# Altium footprint library Components - 25.03.22 - 15.14.PcbLib: 1 footprints
Each footprint in its own frame and in the unit in brackets; x right, y up, seen from the top. Pads: shape width x height; smd on the part's side, far side on the other; paste and mask are expansions set on the pad; w line width, h text height; cw(c..) or ccw(c..) is an arc to the next point about the centre after c.
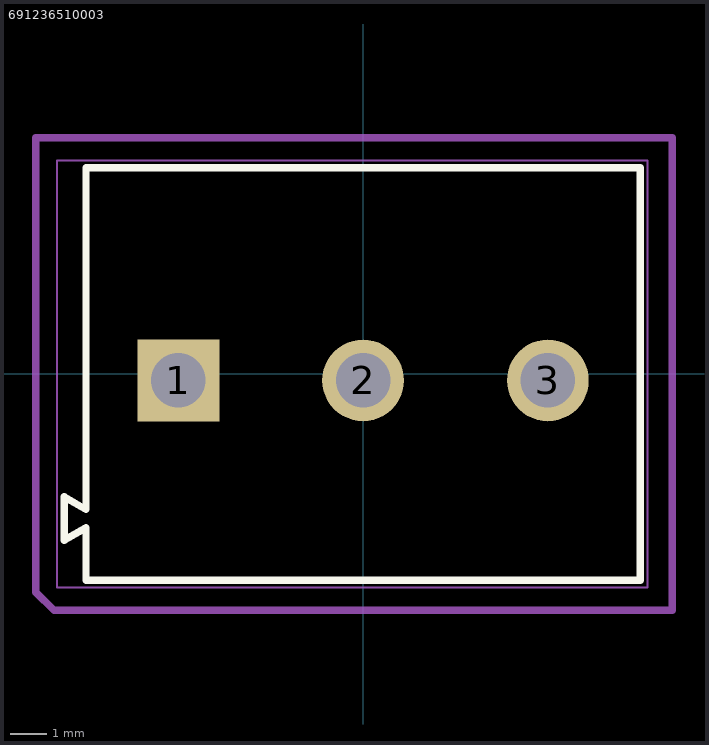
[diagram p0: the footprint, top view; thin cyan lines are the x and y axes]

## 691236510003 [mm] "Horizontal Cable Entry with Rising Cage Clamp, pitch 5.08mm, 03p"
height 18
pads (3):
  rect 2.25x2.25 hole 1.5: 1(-5.08,-0.175)
  round 2.25 hole 1.5: 2(0,-0.175) 3(5.08,-0.175)
Top Overlay:
  lines w0.2: -7.621,-4.223 -8.22,-4.575 -8.22,-3.375 -7.621,-3.727 ; -7.62,-4.225 -7.62,-5.675 7.62,-5.675 7.62,5.675 -7.62,5.675 -7.62,-3.726
Top Assembly:
  lines w0.2: -9,-6 -9,6.5 8.5,6.5 8.5,-5.5 8.5,-6.5 -8.5,-6.5 -9,-6
  text "'.Designator'" at -0.9,7.333 h0.7
M13 Assembly Top:
  lines w0.1: -7.621,-4.223 -8.22,-4.575 -8.22,-3.375 -7.621,-3.727 ; -7.62,-4.225 -7.62,-5.675 7.62,-5.675 7.62,5.675 -7.62,5.675 -7.62,-3.726
M15 Courtyard Top:
  lines w0.05: -0.5,0 0.5,0 ; 0,-0.5 0,0.5 ; -8.42,-5.875 7.82,-5.875 7.82,5.875 -8.42,5.875 -8.42,-5.875
3D body "691236510003.stp": height 18.1, standoff -3.9, extent -8.22,-5.675 7.62,5.675